# Altium footprint library 532611271.PcbLib: 3 footprints
Each footprint in its own frame and in the unit in brackets; x right, y up, seen from the top. Pads: shape width x height; smd on the part's side, far side on the other; paste and mask are expansions set on the pad; w line width, h text height; cw(c..) or ccw(c..) is an arc to the next point about the centre after c.
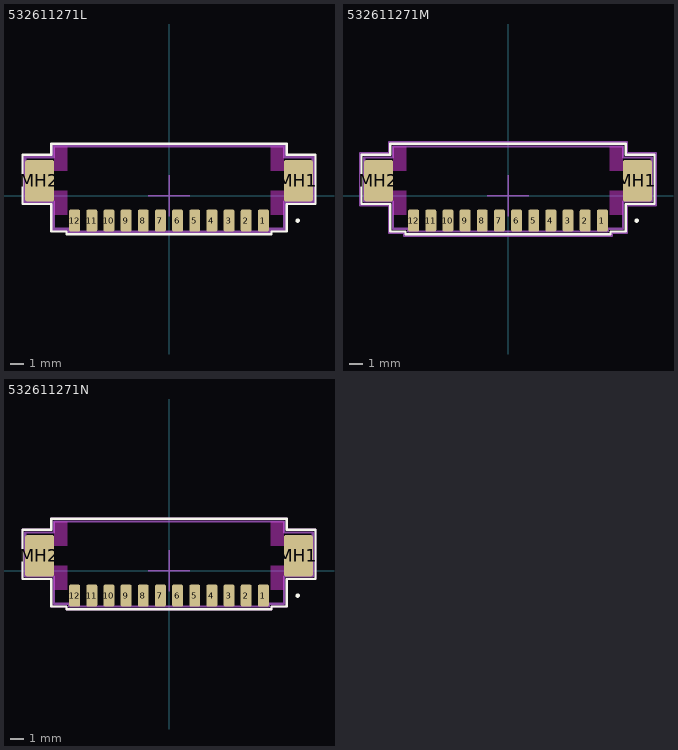
[diagram p0: the footprints below, top view; thin cyan lines are the x and y axes]

## 532611271L [mm] "Molex PicoBlade 12-Pin Right-Angle Connector with Tin Coating"
height 3.4
pads (14):
  rrect31% 0.8x1.6 smd: 1(6.875,-1.8) 2(5.625,-1.8) 3(4.375,-1.8) 4(3.125,-1.8) 5(1.875,-1.8) 6(0.625,-1.8) 7(-0.625,-1.8) 8(-1.875,-1.8) 9(-3.125,-1.8) 10(-4.375,-1.8) 11(-5.625,-1.8) 12(-6.875,-1.8)
  rrect12% 2.1x3 smd: MH1(9.425,1.1) MH2(-9.425,1.1)
Top Layer keep-out:
  rectangle: -8.375,3.6 -7.375,1.8
  rectangle: 8.375,3.6 7.375,1.8
  rectangle: -8.375,-1.4 -7.375,0.4
  rectangle: 8.375,-1.4 7.375,0.4
Top Overlay:
  circle w0.16: c9.375,-1.8 r0.08
  lines w0.16: -10.675,-0.6 -8.575,-0.6 -8.575,-2.6 -7.475,-2.6 -7.475,-2.8 7.475,-2.8 7.475,-2.6 8.575,-2.6 8.575,-0.6 10.675,-0.6 10.675,3 8.575,3 8.575,3.8 -8.575,3.8 -8.575,3 -10.675,3 -10.675,-0.6
Top Component Center:
  lines w0.1: -1.5,0 1.5,0 ; 0,-1.5 0,1.5
Top Courtyard:
  lines w0.16: -10.575,-0.5 -8.475,-0.5 -8.475,-2.5 -7.375,-2.5 -7.375,-2.7 7.375,-2.7 7.375,-2.5 8.475,-2.5 8.475,-0.5 10.575,-0.5 10.575,2.9 8.475,2.9 8.475,3.7 -8.475,3.7 -8.475,2.9 -10.575,2.9 -10.575,-0.5
Top Assembly:
  lines w0.16: -10.475,-0.4 -8.375,-0.4 -8.375,-2.4 -7.275,-2.4 -7.275,-2.6 7.275,-2.6 7.275,-2.4 8.375,-2.4 8.375,-0.4 10.475,-0.4 10.475,2.8 8.375,2.8 8.375,3.6 -8.375,3.6 -8.375,2.8 -10.475,2.8 -10.475,-0.4
3D body "532611271L.STEP": height 3.4, standoff 0, extent -10.075,-2 10.075,3.2

## 532611271M [mm] "Molex PicoBlade 12-Pin Right-Angle Connector with Tin Coating"
height 3.4
pads (14):
  rrect31% 0.8x1.6 smd: 1(6.875,-1.8) 2(5.625,-1.8) 3(4.375,-1.8) 4(3.125,-1.8) 5(1.875,-1.8) 6(0.625,-1.8) 7(-0.625,-1.8) 8(-1.875,-1.8) 9(-3.125,-1.8) 10(-4.375,-1.8) 11(-5.625,-1.8) 12(-6.875,-1.8)
  rrect12% 2.1x3 smd: MH1(9.425,1.1) MH2(-9.425,1.1)
Top Layer keep-out:
  rectangle: -8.375,3.6 -7.375,1.8
  rectangle: 8.375,3.6 7.375,1.8
  rectangle: -8.375,-1.4 -7.375,0.4
  rectangle: 8.375,-1.4 7.375,0.4
Top Overlay:
  circle w0.16: c9.375,-1.8 r0.08
  lines w0.16: -10.675,-0.6 -8.575,-0.6 -8.575,-2.6 -7.475,-2.6 -7.475,-2.8 7.475,-2.8 7.475,-2.6 8.575,-2.6 8.575,-0.6 10.675,-0.6 10.675,3 8.575,3 8.575,3.8 -8.575,3.8 -8.575,3 -10.675,3 -10.675,-0.6
Top Component Center:
  lines w0.1: -1.5,0 1.5,0 ; 0,-1.5 0,1.5
Top Courtyard:
  lines w0.16: -10.775,-0.7 -8.675,-0.7 -8.675,-2.7 -7.575,-2.7 -7.575,-2.9 7.575,-2.9 7.575,-2.7 8.675,-2.7 8.675,-0.7 10.775,-0.7 10.775,3.1 8.675,3.1 8.675,3.9 -8.675,3.9 -8.675,3.1 -10.775,3.1 -10.775,-0.7
Top Assembly:
  lines w0.16: -10.475,-0.4 -8.375,-0.4 -8.375,-2.4 -7.275,-2.4 -7.275,-2.6 7.275,-2.6 7.275,-2.4 8.375,-2.4 8.375,-0.4 10.475,-0.4 10.475,2.8 8.375,2.8 8.375,3.6 -8.375,3.6 -8.375,2.8 -10.475,2.8 -10.475,-0.4
3D body "532611271M.STEP": height 3.4, standoff 0, extent -10.075,-2 10.075,3.2

## 532611271N [mm] "Molex PicoBlade 12-Pin Right-Angle Connector with Tin Coating"
height 3.4
pads (14):
  rrect31% 0.8x1.6 smd: 1(6.875,-1.8) 2(5.625,-1.8) 3(4.375,-1.8) 4(3.125,-1.8) 5(1.875,-1.8) 6(0.625,-1.8) 7(-0.625,-1.8) 8(-1.875,-1.8) 9(-3.125,-1.8) 10(-4.375,-1.8) 11(-5.625,-1.8) 12(-6.875,-1.8)
  rrect12% 2.1x3 smd: MH1(9.425,1.1) MH2(-9.425,1.1)
Top Layer keep-out:
  rectangle: -8.375,3.6 -7.375,1.8
  rectangle: 8.375,3.6 7.375,1.8
  rectangle: -8.375,-1.4 -7.375,0.4
  rectangle: 8.375,-1.4 7.375,0.4
Top Overlay:
  circle w0.16: c9.375,-1.8 r0.08
  lines w0.16: -10.675,-0.6 -8.575,-0.6 -8.575,-2.6 -7.475,-2.6 -7.475,-2.8 7.475,-2.8 7.475,-2.6 8.575,-2.6 8.575,-0.6 10.675,-0.6 10.675,3 8.575,3 8.575,3.8 -8.575,3.8 -8.575,3 -10.675,3 -10.675,-0.6
Top Component Center:
  lines w0.1: -1.5,0 1.5,0 ; 0,-1.5 0,1.5
Top Courtyard:
  lines w0.16: -10.675,-0.6 -8.575,-0.6 -8.575,-2.6 -7.475,-2.6 -7.475,-2.8 7.475,-2.8 7.475,-2.6 8.575,-2.6 8.575,-0.6 10.675,-0.6 10.675,3 8.575,3 8.575,3.8 -8.575,3.8 -8.575,3 -10.675,3 -10.675,-0.6
Top Assembly:
  lines w0.16: -10.475,-0.4 -8.375,-0.4 -8.375,-2.4 -7.275,-2.4 -7.275,-2.6 7.275,-2.6 7.275,-2.4 8.375,-2.4 8.375,-0.4 10.475,-0.4 10.475,2.8 8.375,2.8 8.375,3.6 -8.375,3.6 -8.375,2.8 -10.475,2.8 -10.475,-0.4
3D body "532611271N.STEP": height 3.4, standoff 0, extent -10.075,-2 10.075,3.2